# Altium footprint library dc_power_connectors.PcbLib: 6 footprints
Each footprint in its own frame and in the unit in brackets; x right, y up, seen from the top. Pads: shape width x height; smd on the part's side, far side on the other; paste and mask are expansions set on the pad; w line width, h text height; cw(c..) or ccw(c..) is an arc to the next point about the centre after c.
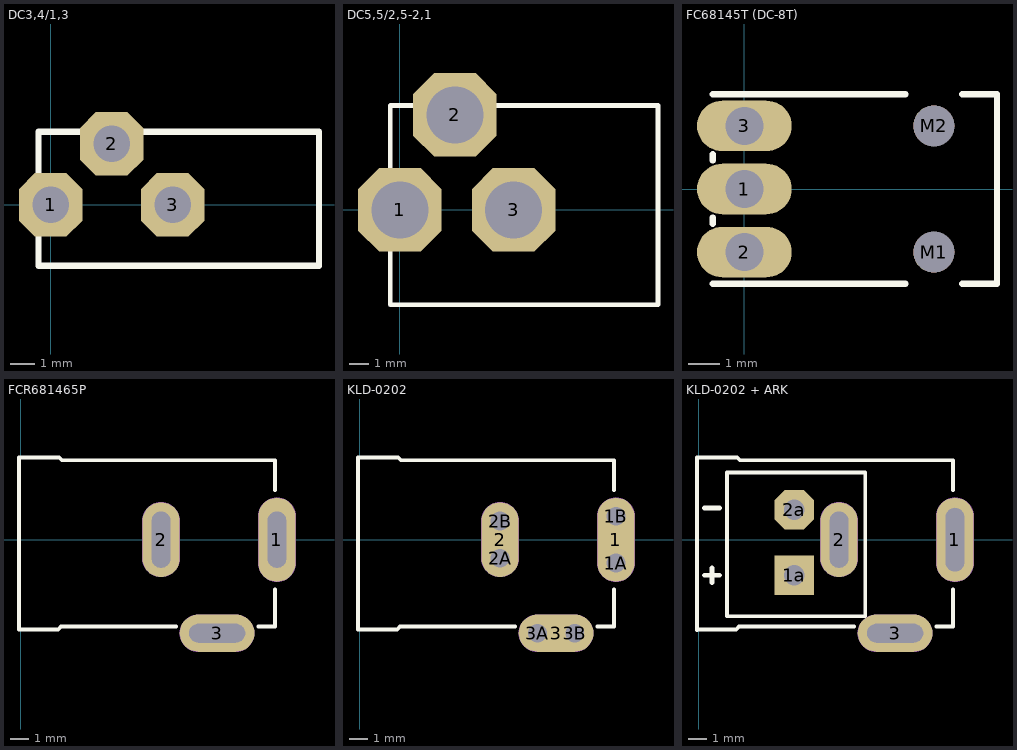
[diagram p0: the footprints below, top view; thin cyan lines are the x and y axes]

## DC3,4/1,3 [mm]
height 7.5
pads (3):
  oct 2.6x2.6 hole 1.5: 1(0,0) 2(2.5,2.5) 3(5,0)
Top Overlay:
  lines w0.254: -0.5,-2.5 11,-2.5 11,3 -0.5,3 -0.5,-2.5

## DC5,5/2,5-2,1 [mm]
height 11
pads (3):
  oct 4.4x4.4 hole 3: 1(0,0) 2(2.9,5) 3(6,0)
Top Overlay:
  lines w0.254: -0.5,-5 -0.5,5.5 13.6,5.5 13.6,-5 -0.5,-5

## FC68145T (DC-8T) [mm] "Cliff FC68145T (DC-8T)"
pads (5):
  oval 3x1.6 hole 1.2: 1(0,0) 2(0,-2) 3(0,2)
  round 1.3 hole 1.3: M1(6,-2) M2(6,2)
Top Overlay:
  lines w0.2: -1,-3 5.1,-3 ; -1,-1.1 -1,-0.9 ; -1,0.9 -1,1.1 ; -1,3 5.1,3 ; 6.9,-3 8,-3 8,3 6.9,3
3D body "PJ-036D.STEP": height 5, standoff -3, extent -1,-3 8,3

## FCR681465P [mm] "Socket; DC supply; male; 5,5/2,1-2,5mm; 5.5mm; 2.1mm; THT; 5A; 12VDC"
pads (3):
  oval 2x4.5 hole 1 slot 3 at 90 deg: 1(13.7,0)
  oval 2x4 hole 1 slot 3 at 90 deg: 2(7.5,0)
  oval 4x2 hole 1 slot 3 at 0 deg: 3(10.5,-5)
Top Overlay:
  lines w0.2: 8.3,-4.65 6.05,-4.65 2.15,-4.65 2,-4.8 -0.1,-4.8 -0.1,4.4 2.05,4.4 2.2,4.25 10.8,4.25 13.6,4.25 13.6,2.65 ; 12.7,-4.65 13.6,-4.65 13.6,-2.65
Mechanical 1:
  lines w1: 7.5,-1 7.5,1 ; 9.5,-5 11.5,-5 ; 13.7,-1.25 13.7,1.25
  text "Mech 2 - Clearance, move to internal plane if present" at 0.286,5.066 h0.3
  text "Mech 1 - Slot cut-out" at 0.286,5.566 h0.3
  text "Assign keep-out area to slot" at 0.286,6.566 h0.3
  text "Alert PCB fab to slot details" at 0.286,6.066 h0.3
Mechanical 2:
  lines w2.016: 7.5,-1 7.5,1 ; 9.5,-5 11.5,-5 ; 13.7,-1.25 13.7,1.25
3D body "User Library-dc range - dc connector[4840_2201].step": height 11, standoff -3.5, extent -0.026,-5.203 13.8,4.303

## KLD-0202 [mm] "DC Power Jack, 2.5mm, KLD Series, PCB Mount"
pads (9):
  oval 2x4.5 all layers, no hole: 1(13.7,0)
  round 1.5 hole 1: 1A(13.7,-1.25) 1B(13.7,1.25) 2A(7.5,-1) 2B(7.5,1) 3A(9.5,-5) 3B(11.5,-5)
  oval 2x4 all layers, no hole: 2(7.5,0)
  oval 4x2 all layers, no hole: 3(10.5,-5)
Top Overlay:
  lines w0.2: 8.3,-4.65 6.05,-4.65 2.15,-4.65 2,-4.8 -0.1,-4.8 -0.1,4.4 2.05,4.4 2.2,4.25 10.8,4.25 13.6,4.25 13.6,2.65 ; 12.7,-4.65 13.6,-4.65 13.6,-2.65
Mechanical 1:
  lines w1: 7.5,-1 7.5,1 ; 9.5,-5 11.5,-5 ; 13.7,-1.25 13.7,1.25
  text "Mech 2 - Clearance, move to internal plane if present" at 0.286,5.066 h0.3
  text "Mech 1 - Slot cut-out" at 0.286,5.566 h0.3
  text "Assign keep-out area to slot" at 0.286,6.566 h0.3
  text "Alert PCB fab to slot details" at 0.286,6.066 h0.3
Mechanical 2:
  lines w2.016: 7.5,-1 7.5,1 ; 9.5,-5 11.5,-5 ; 13.7,-1.25 13.7,1.25
3D body "User Library-dc range - dc connector[4840_2201].step": height 11, standoff -3.5, extent -0.026,-5.203 13.8,4.303

## KLD-0202 + ARK [mm] "DC Power Jack, 2.5mm, KLD Series, PCB Mount"
pads (5):
  oval 2x4.5 hole 1 slot 3.4 at 90 deg: 1(13.7,0)
  rect 2.1x2.1 hole 1.1: 1a(5.1,-1.9)
  oval 2x4 hole 1 slot 3 at 90 deg: 2(7.5,0)
  oct 2.1x2.1 hole 1.1: 2a(5.1,1.6)
  oval 4x2 hole 1 slot 3 at 0 deg: 3(10.5,-5)
Top Overlay:
  lines w0.2: -0.1,-4.85 -0.1,4.35 ; -0.1,-4.8 2,-4.8 2.15,-4.65 6.05,-4.65 8.3,-4.65 ; -0.1,4.4 2.05,4.4 2.2,4.25 10.8,4.25 13.6,4.25 13.6,2.65 ; 12.7,-4.65 13.6,-4.65 13.6,-2.65 ; 1.5,-4.1 8.9,-4.1 8.9,3.6 1.5,3.6 1.5,-4.1
  lines w0.254: 0.3,-1.9 1.1,-1.9 ; 0.3,1.7 1.1,1.7 ; 0.7,-2.3 0.7,-1.5
Mechanical 2:
  lines w2.016: 7.5,-1 7.5,1 ; 9.5,-5 11.5,-5 ; 13.7,-1.25 13.7,1.25
3D body "User Library-dc range - dc connector[4840_2201].step": height 11, standoff -3.5, extent -0.026,-5.203 13.8,4.303